# Altium footprint library RSX_Mechanicals.PcbLib: 3 footprints
Each footprint in its own frame and in the unit in brackets; x right, y up, seen from the top. Pads: shape width x height; smd on the part's side, far side on the other; paste and mask are expansions set on the pad; w line width, h text height; cw(c..) or ccw(c..) is an arc to the next point about the centre after c.
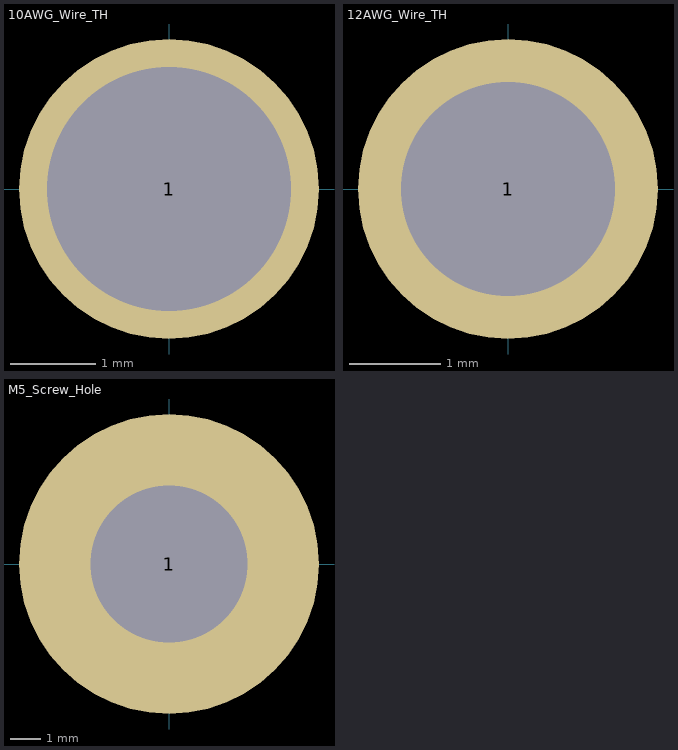
[diagram p0: the footprints below, top view; thin cyan lines are the x and y axes]

## 10AWG_Wire_TH [mm]
pads (1):
  round 3.5 hole 2.85 mask+0.15: 1(0,0)

## 12AWG_Wire_TH [mm] "21.25mm Dia: 28mm Pad"
pads (1):
  round 3.3 hole 2.35 mask+0.2: 1(0,0)

## M5_Screw_Hole [mm]
pads (1):
  round 10 hole 5.25 mask+0.2: 1(0,0)